# EAGLE library part MC33269D (library cpcfpga)
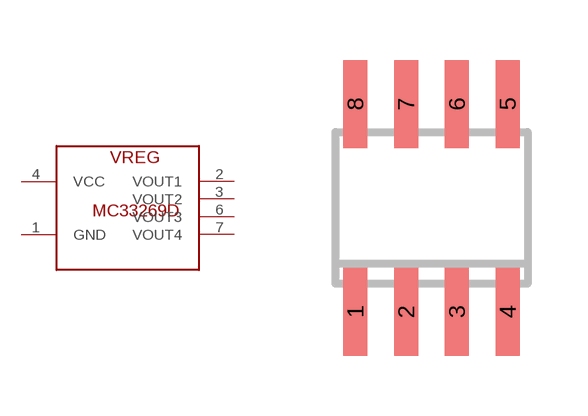
[diagram p4: symbol with the pads of SO8; footprint SO8]

Designator prefix -

## MC33269D  [SO8]
1  GND
2  VOUT1  out
3  VOUT2  out
4  VCC
6  VOUT3  out
7  VOUT4  out

## Footprint SO8 (pad centres in mm)
SMALL OUTLINE INTEGRATED CIRCUIT SOP-8L Source: http://www.diodes.com/datasheets/ds31262.pdf
smd 0.6 x 2.2: 1 -1.905,-2.6; 2 -0.635,-2.6; 3 0.635,-2.6; 4 1.905,-2.6; 5 1.905,2.6; 6 0.635,2.6; 7 -0.635,2.6; 8 -1.905,2.6